# EAGLE library part SN74ACT14 (library texas-instruments)
HEX SCHMITT-TRIG INV 14-TSSOP
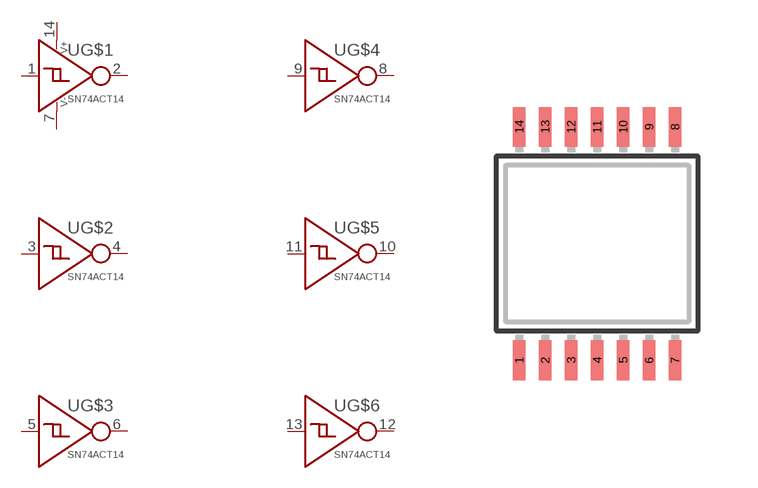
[diagram p33: symbol with the pads of TSSOP14; footprint TSSOP14]

Designator prefix U; gates G$2=SN74ACT14 G$3=SN74ACT14 G$4=SN74ACT14 G$5=SN74ACT14 G$6=SN74ACT14 G$1=SN74ACT14 G$7=PWR+-

## SN74ACT14 (DIGIKEY: 296-4369-1-ND; P1I: o)  [TSSOP14]
1  G$1:IN
2  G$1:OUT
3  G$2:IN
4  G$2:OUT
5  G$3:IN
6  G$3:OUT
7  G$7:V-  pwr
8  G$4:OUT
9  G$4:IN
10  G$5:OUT
11  G$5:IN
12  G$6:OUT
13  G$6:IN
14  G$7:V+  pwr

## Footprint TSSOP14 (pad centres in mm)
Thin Shrink Small Outline Plastic 14
smd 0.305 x 0.991: 1 -1.95,-2.918; 2 -1.3,-2.918; 3 -0.65,-2.918; 4 0,-2.918; 5 0.65,-2.918; 6 1.3,-2.918; 7 1.95,-2.918; 8 1.95,2.918; 9 1.3,2.918; 10 0.65,2.918; 11 0,2.918; 12 -0.65,2.918; 13 -1.3,2.918; 14 -1.95,2.918